# EAGLE library part HEADER-1X10 (library everykey)
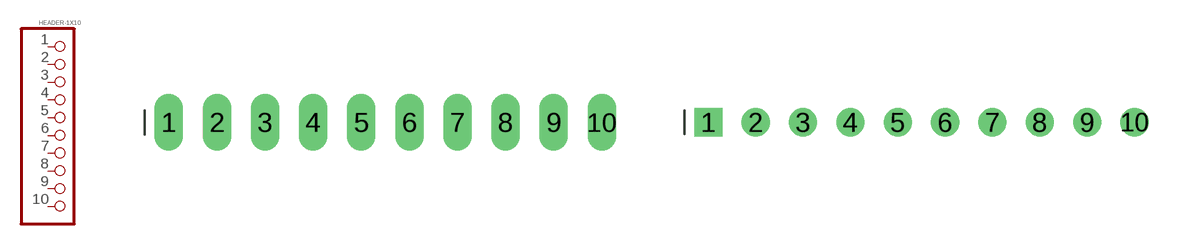
[diagram p31: symbol with the pads of 1X10_OVAL; footprints 1X10_OVAL, 1X10_ROUND]

Designator prefix P

## HEADER-1X10OVAL  [1X10_OVAL]
1  1  pas
2  2  pas
3  3  pas
4  4  pas
5  5  pas
6  6  pas
7  7  pas
8  8  pas
9  9  pas
10  10  pas

## HEADER-1X10ROUND  [1X10_ROUND]
Pads as for 1X10_OVAL

## Footprint 1X10_OVAL (pad centres in mm)
drill 1 long: 1 -11.43,0; 2 -8.89,0; 3 -6.35,0; 4 -3.81,0; 5 -1.27,0; 6 1.27,0; 7 3.81,0; 8 6.35,0; 9 8.89,0; 10 11.43,0

## Footprint 1X10_ROUND (pad centres in mm)
drill 1 square: 1 -11.43,0
drill 1: 2 -8.89,0; 3 -6.35,0; 4 -3.81,0; 5 -1.27,0; 6 1.27,0; 7 3.81,0; 8 6.35,0; 9 8.89,0; 10 11.43,0